# Altium footprint library 常用元件封装.PCBLIB: 174 footprints (part 10 of 11)
Each footprint in its own frame and in the unit in brackets; x right, y up, seen from the top. Pads: shape width x height; smd on the part's side, far side on the other; paste and mask are expansions set on the pad; w line width, h text height; cw(c..) or ccw(c..) is an arc to the next point about the centre after c.
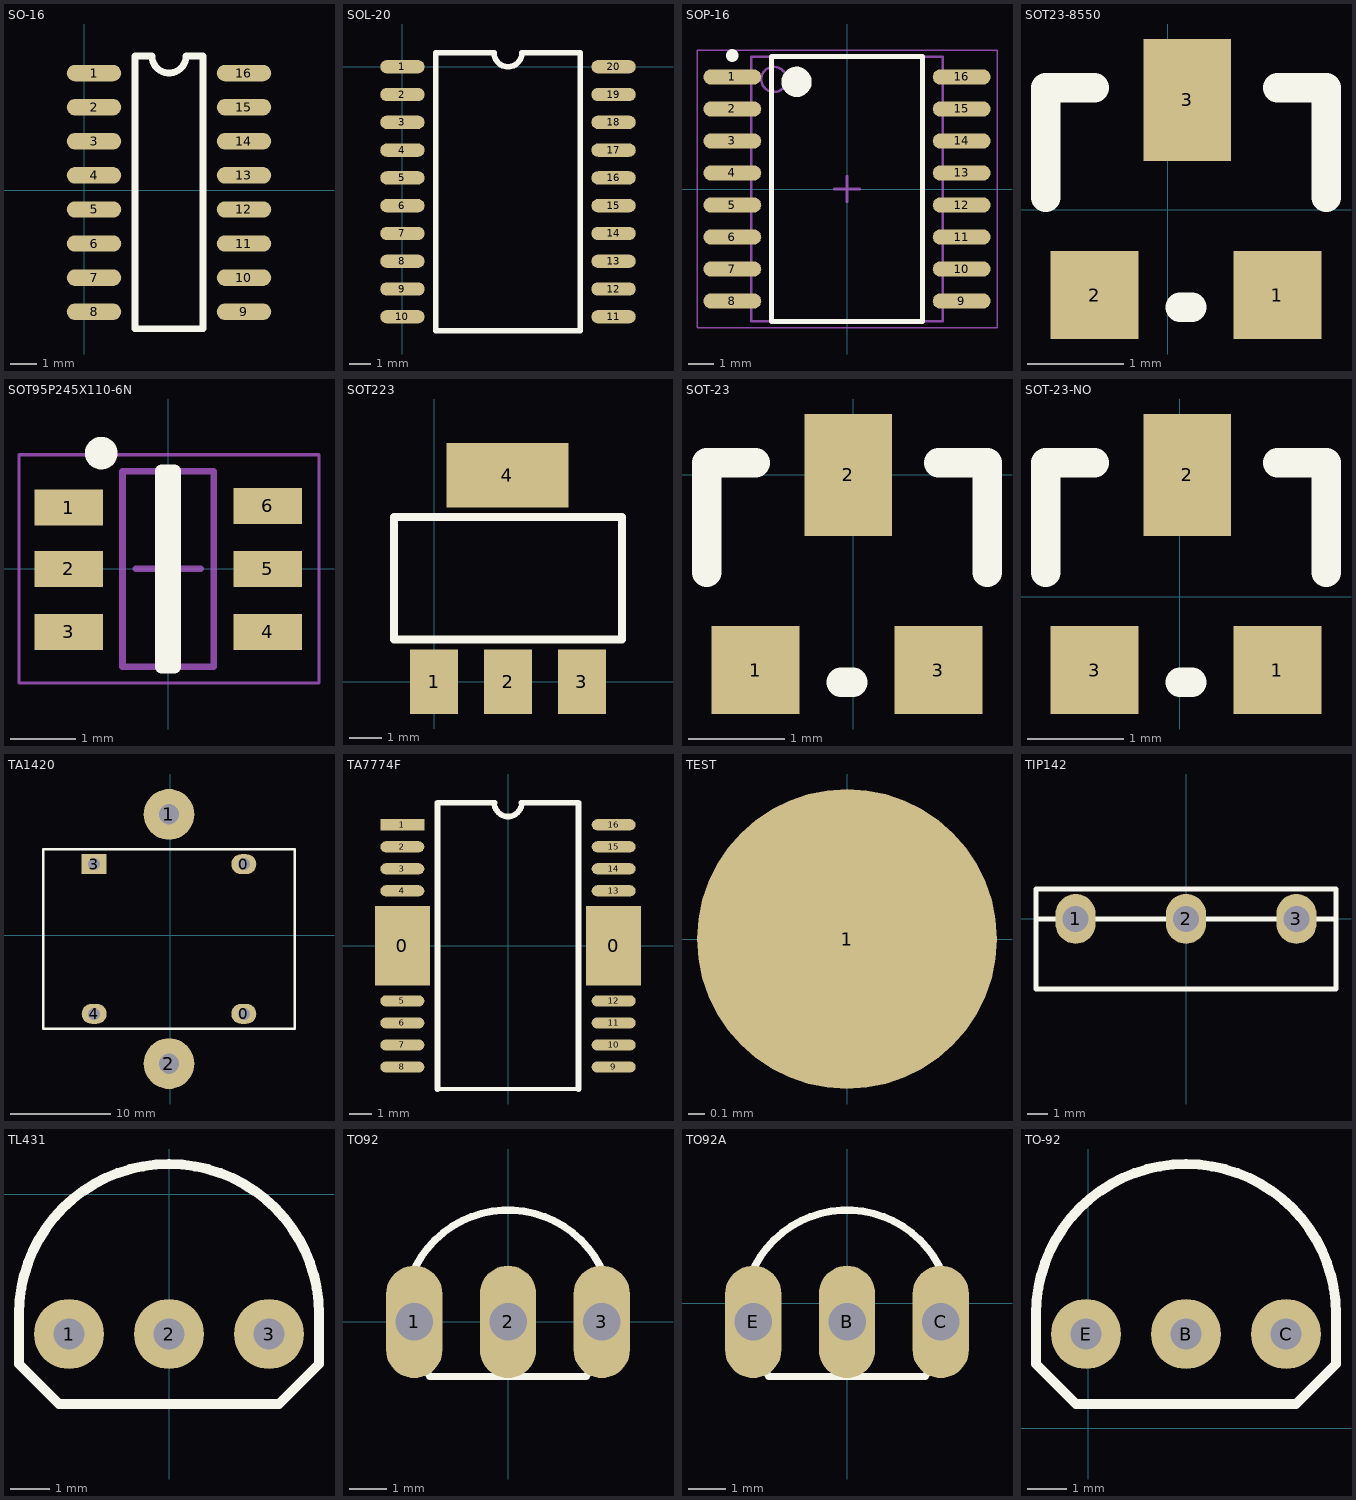
[diagram p9: the footprints below, top view; thin cyan lines are the x and y axes]

## SO-16 [mil]
pads (16):
  oval 80x24 smd: 1(14,172) 2(14,122) 3(14,72) 4(14,22) 5(14,-28) 6(14,-78) 7(14,-128) 8(14,-178) 9(234,-178) 10(234,-128) 11(234,-78) 12(234,-28) 13(234,22) 14(234,72) 15(234,122) 16(234,172)
TopOverlay:
  lines w10: 74,-203 74,197 99,197 ccw(c124,197) 149,197 174,197 174,-203 74,-203

## SOL-20 [mil]
pads (20):
  oval 80x24 smd: 1(0,0) 2(0,-50) 3(0,-100) 4(0,-150) 5(0,-200) 6(0,-250) 7(0,-300) 8(0,-350) 9(0,-400) 10(0,-450) 11(380,-450) 12(380,-400) 13(380,-350) 14(380,-300) 15(380,-250) 16(380,-200) 17(380,-150) 18(380,-100) 19(380,-50) 20(380,0)
TopOverlay:
  lines w10: 60,-475 320,-475 320,25 215,25 cw(c190,25) 165,25 60,25 60,-475

## SOP-16 [mm] "SOP, 16-Leads, Body 10.30x7.50mm, Pitch 1.27mm, IPC Medium Density"
height 2.65
pads (16):
  oval 2.3x0.6 smd: 1(-4.55,4.445) 2(-4.55,3.175) 3(-4.55,1.905) 4(-4.55,0.635) 5(-4.55,-0.635) 6(-4.55,-1.905) 7(-4.55,-3.175) 8(-4.55,-4.445) 9(4.55,-4.445) 10(4.55,-3.175) 11(4.55,-1.905) 12(4.55,-0.635) 13(4.55,0.635) 14(4.55,1.905) 15(4.55,3.175) 16(4.55,4.445)
TopOverlay:
  circle w0.25: c-4.55,5.295 r0.125
  circle w0.6: c-2,4.25 r0.3
  lines w0.2: -3,-5.25 -3,5.25 3,5.25 3,-5.25 -3,-5.25
Mechanical13:
  circle w0.1: c-2.9,4.35 r0.5
  lines w0.1: -3.8,-5.25 -3.8,5.25 3.8,5.25 3.8,-5.25 -3.8,-5.25
Mechanical15:
  lines w0.05: -5.95,-5.5 -5.95,5.5 5.95,5.5 5.95,-5.5 -5.95,-5.5
  lines w0.1: -0.5,0 0.5,0 ; 0,-0.5 0,0.5
3D body: height 2.65, standoff 0.1, extent -3.8,-5.25 3.8,5.25

## SOT23-8550 [mil]
pads (3):
  rect 36x36 smd: 1(45,-35) 2(-30,-35)
  rect 36x50 smd: 3(8,45)
TopOverlay:
  lines w12: -50,5 -50,50 -30,50 ; 5,-40 10,-40 ; 45,50 65,50 65,5

## SOT95P245X110-6N [mm] "SOT23, 6-Leads, Body 2.90x2.45mm, Pitch 0.95mm, IPC Medium Density"
height 1.1
pads (6):
  rect 1.05x0.55 smd: 1(-1.524,0.94) 2(-1.524,0) 3(-1.524,-0.965) 4(1.524,-0.965) 5(1.524,0) 6(1.524,0.965)
TopOverlay:
  circle w0.25: c-1.025,1.775 r0.125
  lines w0.2: -0.1,-1.5 0.1,-1.5 0.1,1.5 -0.1,1.5 -0.1,-1.5
Mechanical13:
  lines w0.1: -0.7,-1.5 -0.7,1.5 0.7,1.5 0.7,-1.5 -0.7,-1.5
Mechanical15:
  lines w0.05: -2.286,-1.75 -2.286,1.75 2.311,1.75 2.311,-1.75 -2.286,-1.75
  lines w0.1: -0.5,0 0.5,0 ; 0,-0.5 0,0.5
3D body: height 1.1, standoff 0.05, extent -0.7,-1.5 0.7,1.5

## SOT223 [mil]
pads (4):
  rect 59x79 smd: 1(0,0) 2(90.55,0) 3(181.1,0)
  rect 150x79 smd: 4(89.88,253.54)
TopOverlay:
  lines w10: -49.45,52 -49.45,202 230.55,202 230.55,52 -49.45,52

## SOT-23 [mil]
pads (3):
  rect 36x36 smd: 1(-40,-80) 3(35,-80)
  rect 36x50 smd: 2(-2,0)
TopOverlay:
  lines w12: -60,-40 -60,5 -40,5 ; -5,-85 0,-85 ; 35,5 55,5 55,-40

## SOT-23-NO [mil]
pads (3):
  rect 36x36 smd: 1(40,-30) 3(-35,-30)
  rect 36x50 smd: 2(3,50)
TopOverlay:
  lines w12: -55,10 -55,55 -35,55 ; 0,-35 5,-35 ; 40,55 60,55 60,10

## TA1420 [mm]
pads (6):
  oval 2.5x2 hole 1.2: 0(7.38,-7.888) 0(7.38,7.112) 4(-7.62,-7.888)
  round 5.08 hole 2.032: 1(-0.12,12.112) 2(-0.12,-12.888)
  rect 2.5x2 hole 1.2: 3(-7.62,7.112)
TopOverlay:
  lines w0.254: -1.92,8.612 12.48,8.612 12.48,-9.388 -12.72,-9.388 -12.72,8.612 -0.22,8.612

## TA7774F [mm]
pads (18):
  rect 2.5x3.6 smd: 0(-4.8,0) 0(4.8,0)
  rect 2x0.508 smd: 1(-4.8,5.5)
  oval 2x0.508 smd: 2(-4.8,4.5) 3(-4.8,3.5) 4(-4.8,2.5) 5(-4.8,-2.5) 6(-4.8,-3.5) 7(-4.8,-4.5) 8(-4.8,-5.5) 9(4.8,-5.5) 10(4.8,-4.5) 11(4.8,-3.5) 12(4.8,-2.5) 13(4.8,2.5) 14(4.8,3.5) 15(4.8,4.5) 16(4.8,5.5)
TopOverlay:
  lines w0.2: -3.2,-6.5 3.2,-6.5
  lines w0.254: -3.2,-6.5 -3.2,6.5 -0.6,6.5 ; -0.625,6.5 ccw(c0,6.5) 0.625,6.5 ; 0.6,6.5 3.2,6.5 3.2,-6.5

## TEST [mil]
pads (1):
  round 70 smd: 1(0,0)

## TIP142 [mil]
pads (3):
  oval 79x98 hole 51: 1(-217,0) 2(0,0) 3(217,0)
TopOverlay:
  lines w10: -295,0 295,0 ; -295,-138 -295,59 295,59 295,-138 -295,-138

## TL431 [mil]
pads (3):
  round 70 hole 31.5: 1(-100,-140) 2(0,-140) 3(100,-140)
TopOverlay:
  lines w10: -150,-170 -150,-120 cw(c0,-120) 150,-120 150,-170 110,-210 -110,-210 -150,-170

## TO92 [mil]
pads (3):
  oval 60x120 hole 40: 1(-100,0) 2(0,0) 3(100,0)
TopOverlay:
  lines w7.87: -102.76,49.85 cw(c0,8.33) 102.76,49.85 ; -89.08,-49.71 -83.33,-58.33 83.33,-58.33 89.08,-49.71

## TO92A [mil]
pads (3):
  oval 60x120 hole 40: B(0,-20) C(100,-20) E(-100,-20)
TopOverlay:
  lines w7.87: -102.76,29.85 cw(c0,-11.67) 102.76,29.85 ; -89.08,-69.71 -83.33,-78.33 83.33,-78.33 89.08,-69.71

## TO-92 [mil]
pads (3):
  round 70 hole 31.5: B(98,94) C(198,94) E(-2,94)
TopOverlay:
  lines w10: -52,64 -52,114 cw(c98,114) 248,114 248,64 208,24 -12,24 -52,64